# Altium footprint library 5V_ESD_Littlefuse_SP1212-01ETG_30kV.PcbLib: 1 footprints
Each footprint in its own frame and in the unit in brackets; x right, y up, seen from the top. Pads: shape width x height; smd on the part's side, far side on the other; paste and mask are expansions set on the pad; w line width, h text height; cw(c..) or ccw(c..) is an arc to the next point about the centre after c.
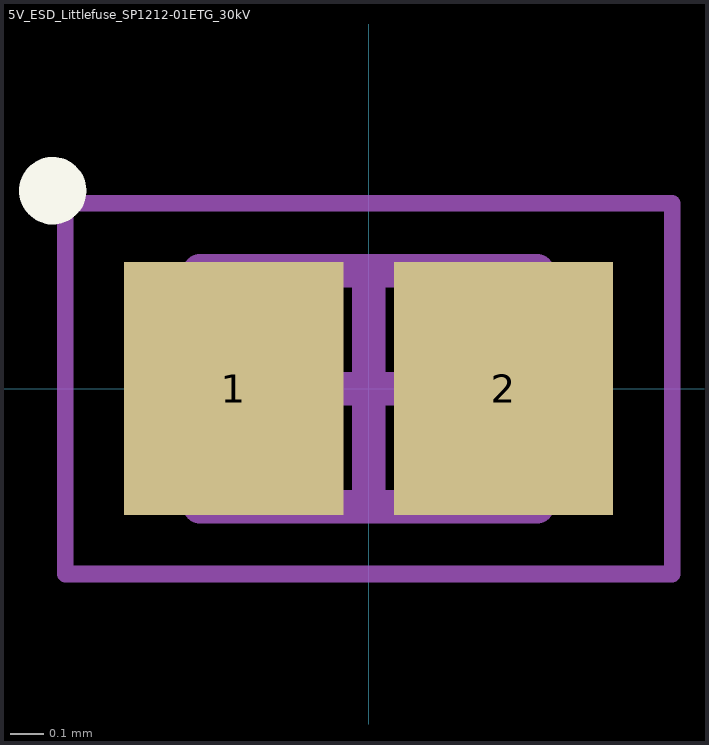
[diagram p0: the footprint, top view; thin cyan lines are the x and y axes]

## 5V_ESD_Littlefuse_SP1212-01ETG_30kV [mm]
height 0.6
pads (2):
  rect 0.65x0.75 smd: 1(-0.4,0) 2(0.4,0)
Top Overlay:
  circle w0.1: c-0.937,0.587 r0.05
Mechanical 13:
  lines w0.1: -0.5,-0.35 -0.5,0.35 0.5,0.35 0.5,-0.35 -0.5,-0.35
Mechanical 15:
  lines w0.05: -0.9,-0.55 -0.9,0.55 0.9,0.55 0.9,-0.55 -0.9,-0.55
  lines w0.1: -0.35,0 0.35,0 ; 0,-0.35 0,0.35
3D body "Chip2PinSM127P600-8N.step": height 0.6, standoff 0, extent -0.5,-0.35 0.5,0.35